# Altium schematic symbol library GRM31A5C2E272JWA1D.SchLib: 1 symbol
Pins are listed as number, name and electrical type; pins without a type are passive.

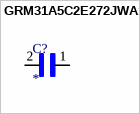
[diagram p0: symbol GRM31A5C2E272JWA1D]

## GRM31A5C2E272JWA1D
designator C?
CAP 0.0027UF 250VDC C0G 5% SMD 1206 PAPER TAPE; MP: GRM31A5C2E272JWA1D; MF: {'manufacturer': u'Murata'}; Package: None; Price: None; Value: *; Availability: Unavailable
footprint CAPC3216X190
pins: 1, 2